# EAGLE library part M10X2 (library HadleyResearch)
2x7 connector
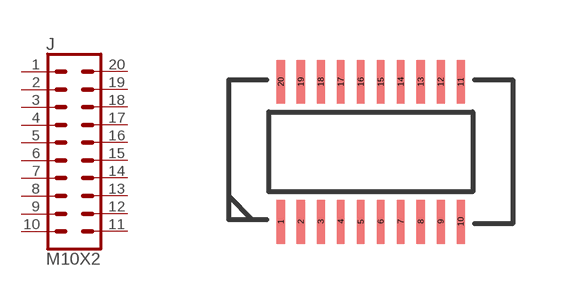
[diagram p3: symbol with the pads of DF12-20; footprint DF12-20]

Designator prefix J

## M10X2_DF12  [DF12-20]
1  1  pas
2  2  pas
3  3  pas
4  4  pas
5  5  pas
6  6  pas
7  7  pas
8  8  pas
9  9  pas
10  10  pas
11  11  pas
12  12  pas
13  13  pas
14  14  pas
15  15  pas
16  16  pas
17  17  pas
18  18  pas
19  19  pas
20  20  pas

## Footprint DF12-20 (pad centres in mm)
DF12-20 20-pin (2x10) 0.5mm surface mount board-to-board connector. More Information: Link <https://www.hirose.com/product/en/download_file/key_name/DF12/category/Catalog/doc_file_id/31693/?file_category_id=4&item_id=23&is_series=1>
smd 0.2 x 1.1: 1 -2.25,-1.75; 2 -1.75,-1.75; 3 -1.25,-1.75; 4 -0.75,-1.75; 5 -0.25,-1.75; 6 0.25,-1.75; 7 0.75,-1.75; 8 1.25,-1.75; 9 1.75,-1.75; 10 2.25,-1.75; 11 2.25,1.75; 12 1.75,1.75; 13 1.25,1.75; 14 0.75,1.75; 15 0.25,1.75; 16 -0.25,1.75; 17 -0.75,1.75; 18 -1.25,1.75; 19 -1.75,1.75; 20 -2.25,1.75